# Altium integrated library Micron Memory Mobile LPDRAM.IntLib: 146 symbols (part 37 of 41)
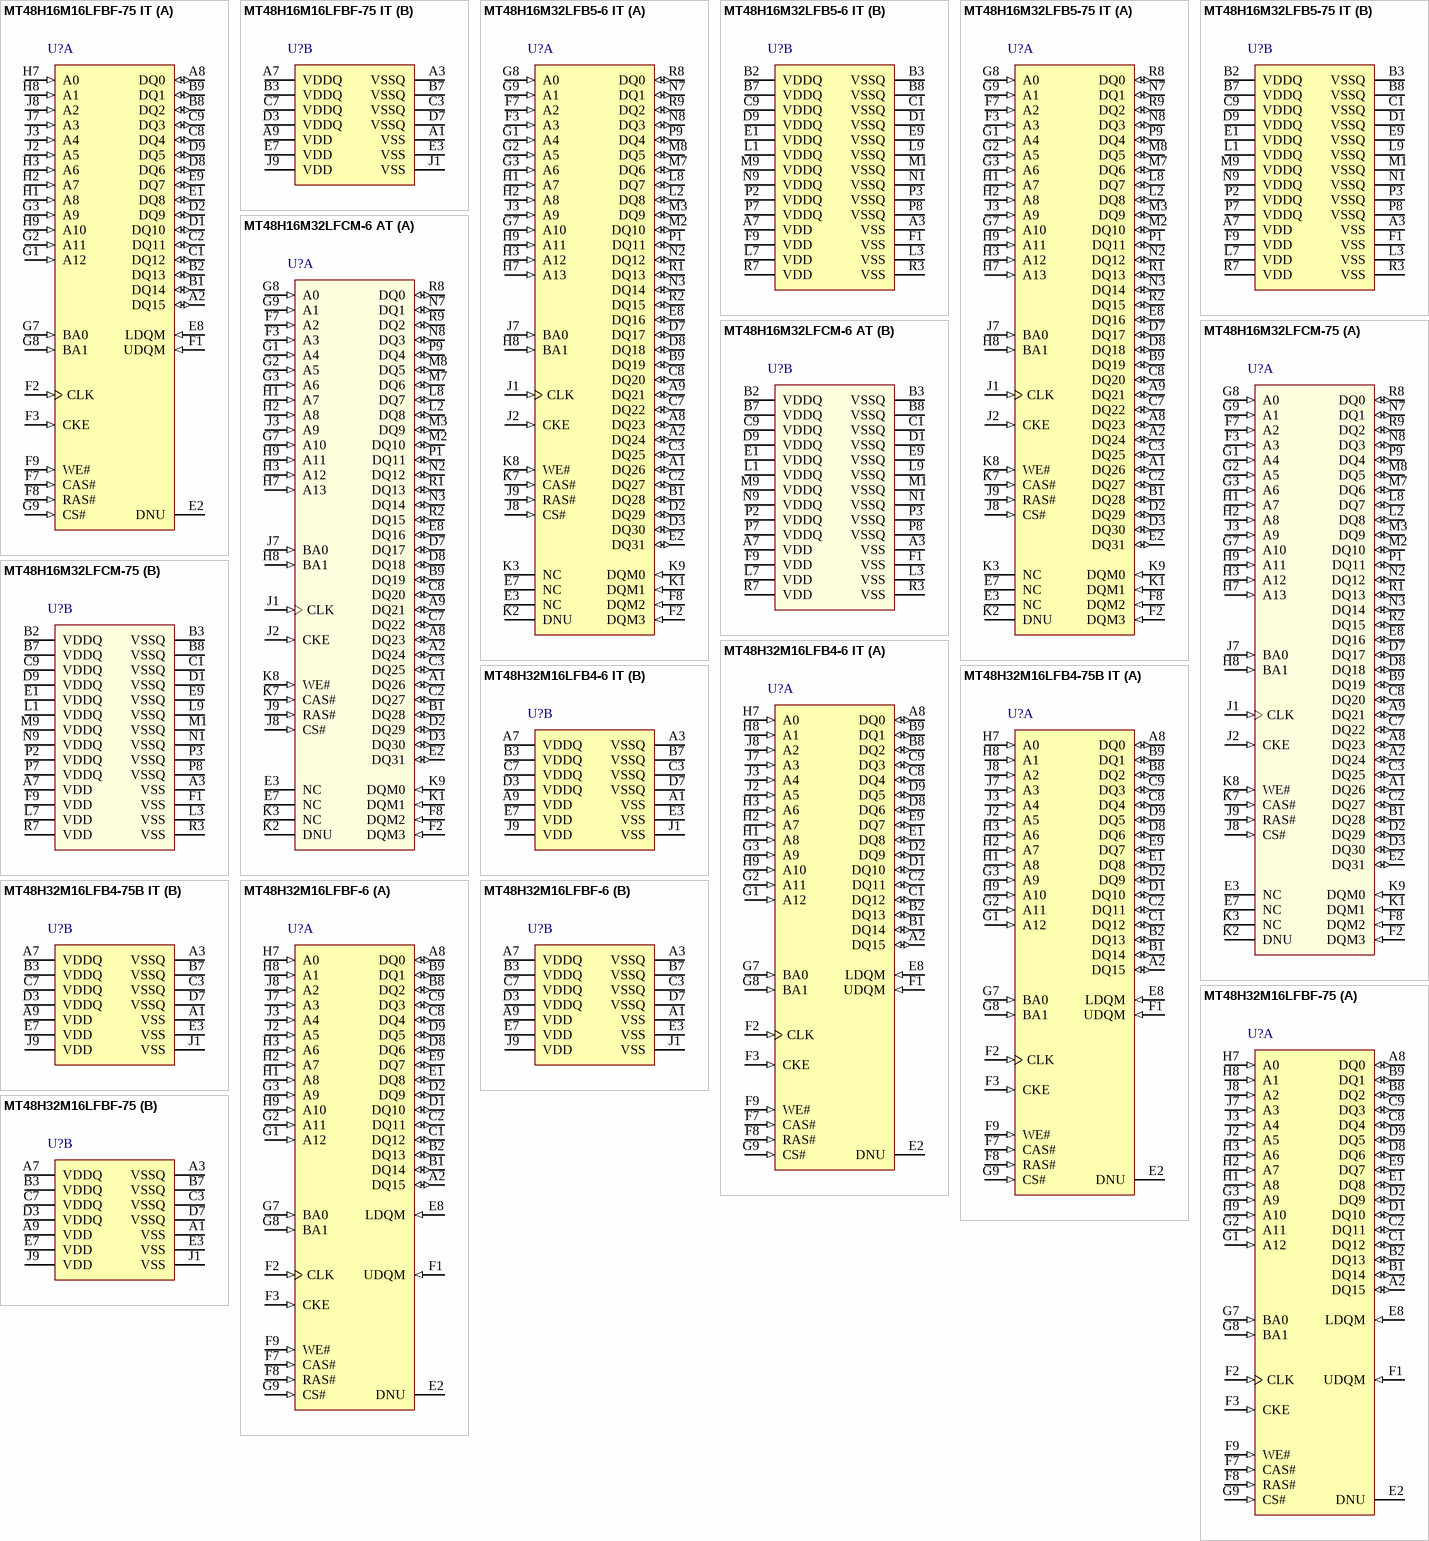
[diagram p60: symbols MT48H16M16LFBF-75 IT to MT48H32M16LFBF-75]

## MT48H16M32LFB5-6 IT
designator U?
512Mb Mobile LPSDR SDRAM, 16Mb x 32, 6ns, 1.8V, -40 to 85 degC, 90-Ball VFBGA, Pb-Free; Manufacturer: Micron; PartNumber: MT48H16M32LFB5-6 IT; Clock Rate: 167 MHz; Op. Temp.: -40C to +85C; DatasheetVersion: Rev.B; PackageVersion: Rev.P; PackageReference: MICT-B5-90; PackageDescription: 90-Ball Very Thin Profile Fine-Pitch Ball Grid Array, 13 x 8 mm, Pitch 0.8 mm; Cycle Time: 6ns; Data Rate: Mobile LPSDR; Density: 512Mb; Depth: 16Mb; Package: VFBGA; Part Status: Production; Pin Count: 90-ball; RoHS: Yes; Technology: Mobile LPSDR; Voltage: 1.8V; Width: x32; Mounting Technology: Surface Mount; ComponentLink1Description: Manufacturer URL; ComponentLink1URL: http://www.micron.com/; ComponentLink2Description: Datasheet; ComponentLink2URL: http://www.micron.com/~/media/Documents/Products/Data%20Sheet/DRAM/Mobile%20DRAM/Low-Power%20DRAM/LPSDR/Y67M_512Mb_Mobile_LPSDR_AT.pdf; ComponentLink3Description: Package Specification; ComponentLink3URL: http://www.micron.com/~/media/Documents/Products/Data%20Sheet/DRAM/Mobile%20DRAM/Low-Power%20DRAM/LPDDR/60-series/T67M_512Mb_mobile_lpddr_sdram_embedded.pdf
footprint MICT-B5-90 (BGA, 90-Balls, Body 13x8mm, Pitch 0.8mm)
part A pins: A1 DQ26 (io) "Data input/output: Data bus.", A2 DQ24 (io) "Data input/output: Data bus.", A8 DQ23 (io) "Data input/output: Data bus.", A9 DQ21 (io) "Data input/output: Data bus.", B1 DQ28 (io) "Data input/output: Data bus.", B9 DQ19 (io) "Data input/output: Data bus.", C2 DQ27 (io) "Data input/output: Data bus.", C3 DQ25 (io) "Data input/output: Data bus.", C7 DQ22 (io) "Data input/output: Data bus.", C8 DQ20 (io) "Data input/output: Data bus.", D2 DQ29 (io) "Data input/output: Data bus.", D3 DQ30 (io) "Data input/output: Data bus.", D7 DQ17 (io) "Data input/output: Data bus.", D8 DQ18 (io) "Data input/output: Data bus.", E2 DQ31 (io) "Data input/output: Data bus.", E3 NC "Internally not connected. These balls can be left unconnected but it is recommended that they be connected to VSS.", E7 NC "Internally not connected. These balls can be left unconnected but it is recommended that they be connected to VSS.", E8 DQ16 (io) "Data input/output: Data bus.", F2 DQM3 (in) "Input/Output mask: DQM is sampled HIGH and is an input mask signal for write accesses and an output enable signal for read accesses. Input data is masked during a WRITE cycle. The output buffers are High-Z (two-clock (See Datasheet)", F3 A3 (in) "Address input: Addresses are sampled during the ACTIVE command (row) and READ/WRITE command [column); column address A[9:0] (x16); with A10 defining auto precharge] to select one location out of the memory array in the (See Datasheet)", F7 A2 (in) "Address input: Addresses are sampled during the ACTIVE command (row) and READ/WRITE command [column); column address A[9:0] (x16); with A10 defining auto precharge] to select one location out of the memory array in the (See Datasheet)", F8 DQM2 (in) "Input/Output mask: DQM is sampled HIGH and is an input mask signal for write accesses and an output enable signal for read accesses. Input data is masked during a WRITE cycle. The output buffers are High-Z (two-clock (See Datasheet)", G1 A4 (in) "Address input: Addresses are sampled during the ACTIVE command (row) and READ/WRITE command [column); column address A[9:0] (x16); with A10 defining auto precharge] to select one location out of the memory array in the (See Datasheet)", G2 A5 (in) "Address input: Addresses are sampled during the ACTIVE command (row) and READ/WRITE command [column); column address A[9:0] (x16); with A10 defining auto precharge] to select one location out of the memory array in the (See Datasheet)", G3 A6 (in) "Address input: Addresses are sampled during the ACTIVE command (row) and READ/WRITE command [column); column address A[9:0] (x16); with A10 defining auto precharge] to select one location out of the memory array in the (See Datasheet)", G7 A10 (in) "Address input: Addresses are sampled during the ACTIVE command (row) and READ/WRITE command [column); column address A[9:0] (x16); with A10 defining auto precharge] to select one location out of the memory array in the (See Datasheet)", G8 A0 (in) "Address input: Addresses are sampled during the ACTIVE command (row) and READ/WRITE command [column); column address A[9:0] (x16); with A10 defining auto precharge] to select one location out of the memory array in the (See Datasheet)", G9 A1 (in) "Address input: Addresses are sampled during the ACTIVE command (row) and READ/WRITE command [column); column address A[9:0] (x16); with A10 defining auto precharge] to select one location out of the memory array in the (See Datasheet)", H1 A7 (in) "Address input: Addresses are sampled during the ACTIVE command (row) and READ/WRITE command [column); column address A[9:0] (x16); with A10 defining auto precharge] to select one location out of the memory array in the (See Datasheet)", H2 A8 (in) "Address input: Addresses are sampled during the ACTIVE command (row) and READ/WRITE command [column); column address A[9:0] (x16); with A10 defining auto precharge] to select one location out of the memory array in the (See Datasheet)", H3 A12 (in) "Address input: Addresses are sampled during the ACTIVE command (row) and READ/WRITE command [column); column address A[9:0] (x16); with A10 defining auto precharge] to select one location out of the memory array in the (See Datasheet)", H7 A13 (in) "Address input: Addresses are sampled during the ACTIVE command (row) and READ/WRITE command [column); column address A[9:0] (x16); with A10 defining auto precharge] to select one location out of the memory array in the (See Datasheet)", H8 BA1 (in) "Bank address input(s): BA0 and BA1 define to which bank the ACTIVE, READ, WRITE, or PRECHARGE command is being applied. BA0 and BA1 become “Don’t Care” when registering an ALL BANK PRECHARGE (A10 HIGH).", H9 A11 (in) "Address input: Addresses are sampled during the ACTIVE command (row) and READ/WRITE command [column); column address A[9:0] (x16); with A10 defining auto precharge] to select one location out of the memory array in the (See Datasheet)", J1 CLK (in) "Clock: CLK is driven by the system clock. All SDRAM input signals are sampled on the positive edge of CLK. CLK also increments the internal burst counter and controls the output registers.", J2 CKE (in) "Clock enable: CKE activates (HIGH) and deactivates (LOW) the CLK signal. Deactivating the clock provides precharge power-down and SELF REFRESH operation (all banks idle), active power-down (row active in any bank), deep (See Datasheet)", J3 A9 (in) "Address input: Addresses are sampled during the ACTIVE command (row) and READ/WRITE command [column); column address A[9:0] (x16); with A10 defining auto precharge] to select one location out of the memory array in the (See Datasheet)", J7 BA0 (in) "Bank address input(s): BA0 and BA1 define to which bank the ACTIVE, READ, WRITE, or PRECHARGE command is being applied. BA0 and BA1 become “Don’t Care” when registering an ALL BANK PRECHARGE (A10 HIGH).", J8 CS# (in) "Chip select: CS# enables (registered LOW) and disables (registered HIGH) the command decoder. All commands are masked when CS# is registered HIGH. CS# provides for external bank selection on systems with multiple banks. CS# (See Datasheet)", J9 RAS# (in) "Command input: RAS#, CAS#, and WE# (along with CS#) define the command being entered.", K1 DQM1 (in) "Input/Output mask: DQM is sampled HIGH and is an input mask signal for write accesses and an output enable signal for read accesses. Input data is masked during a WRITE cycle. The output buffers are High-Z (two-clock (See Datasheet)", K2 DNU "Do not use: Must be grounded or left floating.", K3 NC "Internally not connected. These balls can be left unconnected but it is recommended that they be connected to VSS.", K7 CAS# (in) "Command input: RAS#, CAS#, and WE# (along with CS#) define the command being entered.", K8 WE# (in) "Command input: RAS#, CAS#, and WE# (along with CS#) define the command being entered.", K9 DQM0 (in) "Input/Output mask: DQM is sampled HIGH and is an input mask signal for write accesses and an output enable signal for read accesses. Input data is masked during a WRITE cycle. The output buffers are High-Z (two-clock (See Datasheet)", L2 DQ8 (io) "Data input/output: Data bus.", L8 DQ7 (io) "Data input/output: Data bus.", M2 DQ10 (io) "Data input/output: Data bus.", M3 DQ9 (io) "Data input/output: Data bus.", M7 DQ6 (io) "Data input/output: Data bus.", M8 DQ5 (io) "Data input/output: Data bus.", N2 DQ12 (io) "Data input/output: Data bus.", N3 DQ14 (io) "Data input/output: Data bus.", N7 DQ1 (io) "Data input/output: Data bus.", N8 DQ3 (io) "Data input/output: Data bus.", P1 DQ11 (io) "Data input/output: Data bus.", P9 DQ4 (io) "Data input/output: Data bus.", R1 DQ13 (io) "Data input/output: Data bus.", R2 DQ15 (io) "Data input/output: Data bus.", R8 DQ0 (io) "Data input/output: Data bus.", R9 DQ2 (io) "Data input/output: Data bus."
part B pins: A3 VSS (power) "Ground.", A7 VDD (power) "Core power supply.", B2 VDDQ (power) "DQ power: Provide isolated power to DQ for improved noise immunity.", B3 VSSQ (power) "DQ ground: Provide isolated ground to DQ for improved noise immunity.", B7 VDDQ (power) "DQ power: Provide isolated power to DQ for improved noise immunity.", B8 VSSQ (power) "DQ ground: Provide isolated ground to DQ for improved noise immunity.", C1 VSSQ (power) "DQ ground: Provide isolated ground to DQ for improved noise immunity.", C9 VDDQ (power) "DQ power: Provide isolated power to DQ for improved noise immunity.", D1 VSSQ (power) "DQ ground: Provide isolated ground to DQ for improved noise immunity.", D9 VDDQ (power) "DQ power: Provide isolated power to DQ for improved noise immunity.", E1 VDDQ (power) "DQ power: Provide isolated power to DQ for improved noise immunity.", E9 VSSQ (power) "DQ ground: Provide isolated ground to DQ for improved noise immunity.", F1 VSS (power) "Ground.", F9 VDD (power) "Core power supply.", L1 VDDQ (power) "DQ power: Provide isolated power to DQ for improved noise immunity.", L3 VSS (power) "Ground.", L7 VDD (power) "Core power supply.", L9 VSSQ (power) "DQ ground: Provide isolated ground to DQ for improved noise immunity.", M1 VSSQ (power) "DQ ground: Provide isolated ground to DQ for improved noise immunity.", M9 VDDQ (power) "DQ power: Provide isolated power to DQ for improved noise immunity.", N1 VSSQ (power) "DQ ground: Provide isolated ground to DQ for improved noise immunity.", N9 VDDQ (power) "DQ power: Provide isolated power to DQ for improved noise immunity.", P2 VDDQ (power) "DQ power: Provide isolated power to DQ for improved noise immunity.", P3 VSSQ (power) "DQ ground: Provide isolated ground to DQ for improved noise immunity.", P7 VDDQ (power) "DQ power: Provide isolated power to DQ for improved noise immunity.", P8 VSSQ (power) "DQ ground: Provide isolated ground to DQ for improved noise immunity.", R3 VSS (power) "Ground.", R7 VDD (power) "Core power supply."

## MT48H16M32LFB5-75 IT
designator U?
512Mb Mobile LPSDR SDRAM, 16Mb x 32, 7.5ns, 1.8V, -40 to 85 degC, 90-Ball VFBGA, Pb-Free; Manufacturer: Micron; PartNumber: MT48H16M32LFB5-75 IT; Clock Rate: 133 MHz; Op. Temp.: -40C to +85C; DatasheetVersion: Rev.B; PackageVersion: Rev.P; PackageReference: MICT-B5-90; PackageDescription: 90-Ball Very Thin Profile Fine-Pitch Ball Grid Array, 13 x 8 mm, Pitch 0.8 mm; Cycle Time: 7.5ns; Density: 512Mb; Depth: 16Mb; Package: VFBGA; Part Status: Production; Pin Count: 90-ball; RoHS: Yes; Technology: Mobile LPSDR; Voltage: 1.8V; Width: x32; Mounting Technology: Surface Mount; ComponentLink1Description: Manufacturer URL; ComponentLink1URL: http://www.micron.com/; ComponentLink2Description: Datasheet; ComponentLink2URL: http://www.micron.com/~/media/Documents/Products/Data%20Sheet/DRAM/Mobile%20DRAM/Low-Power%20DRAM/LPSDR/Y67M_512Mb_Mobile_LPSDR_AT.pdf; ComponentLink3Description: Package Specification; ComponentLink3URL: http://www.micron.com/~/media/Documents/Products/Data%20Sheet/DRAM/Mobile%20DRAM/Low-Power%20DRAM/LPDDR/60-series/T67M_512Mb_mobile_lpddr_sdram_embedded.pdf
footprint MICT-B5-90 (BGA, 90-Balls, Body 13x8mm, Pitch 0.8mm)
part A pins: A1 DQ26 (io) "Data input/output: Data bus.", A2 DQ24 (io) "Data input/output: Data bus.", A8 DQ23 (io) "Data input/output: Data bus.", A9 DQ21 (io) "Data input/output: Data bus.", B1 DQ28 (io) "Data input/output: Data bus.", B9 DQ19 (io) "Data input/output: Data bus.", C2 DQ27 (io) "Data input/output: Data bus.", C3 DQ25 (io) "Data input/output: Data bus.", C7 DQ22 (io) "Data input/output: Data bus.", C8 DQ20 (io) "Data input/output: Data bus.", D2 DQ29 (io) "Data input/output: Data bus.", D3 DQ30 (io) "Data input/output: Data bus.", D7 DQ17 (io) "Data input/output: Data bus.", D8 DQ18 (io) "Data input/output: Data bus.", E2 DQ31 (io) "Data input/output: Data bus.", E3 NC "Internally not connected. These balls can be left unconnected but it is recommended that they be connected to VSS.", E7 NC "Internally not connected. These balls can be left unconnected but it is recommended that they be connected to VSS.", E8 DQ16 (io) "Data input/output: Data bus.", F2 DQM3 (in) "Input/Output mask: DQM is sampled HIGH and is an input mask signal for write accesses and an output enable signal for read accesses. Input data is masked during a WRITE cycle. The output buffers are High-Z (two-clock (See Datasheet)", F3 A3 (in) "Address input: Addresses are sampled during the ACTIVE command (row) and READ/WRITE command [column); column address A[9:0] (x16); with A10 defining auto precharge] to select one location out of the memory array in the (See Datasheet)", F7 A2 (in) "Address input: Addresses are sampled during the ACTIVE command (row) and READ/WRITE command [column); column address A[9:0] (x16); with A10 defining auto precharge] to select one location out of the memory array in the (See Datasheet)", F8 DQM2 (in) "Input/Output mask: DQM is sampled HIGH and is an input mask signal for write accesses and an output enable signal for read accesses. Input data is masked during a WRITE cycle. The output buffers are High-Z (two-clock (See Datasheet)", G1 A4 (in) "Address input: Addresses are sampled during the ACTIVE command (row) and READ/WRITE command [column); column address A[9:0] (x16); with A10 defining auto precharge] to select one location out of the memory array in the (See Datasheet)", G2 A5 (in) "Address input: Addresses are sampled during the ACTIVE command (row) and READ/WRITE command [column); column address A[9:0] (x16); with A10 defining auto precharge] to select one location out of the memory array in the (See Datasheet)", G3 A6 (in) "Address input: Addresses are sampled during the ACTIVE command (row) and READ/WRITE command [column); column address A[9:0] (x16); with A10 defining auto precharge] to select one location out of the memory array in the (See Datasheet)", G7 A10 (in) "Address input: Addresses are sampled during the ACTIVE command (row) and READ/WRITE command [column); column address A[9:0] (x16); with A10 defining auto precharge] to select one location out of the memory array in the (See Datasheet)", G8 A0 (in) "Address input: Addresses are sampled during the ACTIVE command (row) and READ/WRITE command [column); column address A[9:0] (x16); with A10 defining auto precharge] to select one location out of the memory array in the (See Datasheet)", G9 A1 (in) "Address input: Addresses are sampled during the ACTIVE command (row) and READ/WRITE command [column); column address A[9:0] (x16); with A10 defining auto precharge] to select one location out of the memory array in the (See Datasheet)", H1 A7 (in) "Address input: Addresses are sampled during the ACTIVE command (row) and READ/WRITE command [column); column address A[9:0] (x16); with A10 defining auto precharge] to select one location out of the memory array in the (See Datasheet)", H2 A8 (in) "Address input: Addresses are sampled during the ACTIVE command (row) and READ/WRITE command [column); column address A[9:0] (x16); with A10 defining auto precharge] to select one location out of the memory array in the (See Datasheet)", H3 A12 (in) "Address input: Addresses are sampled during the ACTIVE command (row) and READ/WRITE command [column); column address A[9:0] (x16); with A10 defining auto precharge] to select one location out of the memory array in the (See Datasheet)", H7 A13 (in) "Address input: Addresses are sampled during the ACTIVE command (row) and READ/WRITE command [column); column address A[9:0] (x16); with A10 defining auto precharge] to select one location out of the memory array in the (See Datasheet)", H8 BA1 (in) "Bank address input(s): BA0 and BA1 define to which bank the ACTIVE, READ, WRITE, or PRECHARGE command is being applied. BA0 and BA1 become “Don’t Care” when registering an ALL BANK PRECHARGE (A10 HIGH).", H9 A11 (in) "Address input: Addresses are sampled during the ACTIVE command (row) and READ/WRITE command [column); column address A[9:0] (x16); with A10 defining auto precharge] to select one location out of the memory array in the (See Datasheet)", J1 CLK (in) "Clock: CLK is driven by the system clock. All SDRAM input signals are sampled on the positive edge of CLK. CLK also increments the internal burst counter and controls the output registers.", J2 CKE (in) "Clock enable: CKE activates (HIGH) and deactivates (LOW) the CLK signal. Deactivating the clock provides precharge power-down and SELF REFRESH operation (all banks idle), active power-down (row active in any bank), deep (See Datasheet)", J3 A9 (in) "Address input: Addresses are sampled during the ACTIVE command (row) and READ/WRITE command [column); column address A[9:0] (x16); with A10 defining auto precharge] to select one location out of the memory array in the (See Datasheet)", J7 BA0 (in) "Bank address input(s): BA0 and BA1 define to which bank the ACTIVE, READ, WRITE, or PRECHARGE command is being applied. BA0 and BA1 become “Don’t Care” when registering an ALL BANK PRECHARGE (A10 HIGH).", J8 CS# (in) "Chip select: CS# enables (registered LOW) and disables (registered HIGH) the command decoder. All commands are masked when CS# is registered HIGH. CS# provides for external bank selection on systems with multiple banks. CS# (See Datasheet)", J9 RAS# (in) "Command input: RAS#, CAS#, and WE# (along with CS#) define the command being entered.", K1 DQM1 (in) "Input/Output mask: DQM is sampled HIGH and is an input mask signal for write accesses and an output enable signal for read accesses. Input data is masked during a WRITE cycle. The output buffers are High-Z (two-clock (See Datasheet)", K2 DNU "Do not use: Must be grounded or left floating.", K3 NC "Internally not connected. These balls can be left unconnected but it is recommended that they be connected to VSS.", K7 CAS# (in) "Command input: RAS#, CAS#, and WE# (along with CS#) define the command being entered.", K8 WE# (in) "Command input: RAS#, CAS#, and WE# (along with CS#) define the command being entered.", K9 DQM0 (in) "Input/Output mask: DQM is sampled HIGH and is an input mask signal for write accesses and an output enable signal for read accesses. Input data is masked during a WRITE cycle. The output buffers are High-Z (two-clock (See Datasheet)", L2 DQ8 (io) "Data input/output: Data bus.", L8 DQ7 (io) "Data input/output: Data bus.", M2 DQ10 (io) "Data input/output: Data bus.", M3 DQ9 (io) "Data input/output: Data bus.", M7 DQ6 (io) "Data input/output: Data bus.", M8 DQ5 (io) "Data input/output: Data bus.", N2 DQ12 (io) "Data input/output: Data bus.", N3 DQ14 (io) "Data input/output: Data bus.", N7 DQ1 (io) "Data input/output: Data bus.", N8 DQ3 (io) "Data input/output: Data bus.", P1 DQ11 (io) "Data input/output: Data bus.", P9 DQ4 (io) "Data input/output: Data bus.", R1 DQ13 (io) "Data input/output: Data bus.", R2 DQ15 (io) "Data input/output: Data bus.", R8 DQ0 (io) "Data input/output: Data bus.", R9 DQ2 (io) "Data input/output: Data bus."
part B pins: A3 VSS (power) "Ground.", A7 VDD (power) "Core power supply.", B2 VDDQ (power) "DQ power: Provide isolated power to DQ for improved noise immunity.", B3 VSSQ (power) "DQ ground: Provide isolated ground to DQ for improved noise immunity.", B7 VDDQ (power) "DQ power: Provide isolated power to DQ for improved noise immunity.", B8 VSSQ (power) "DQ ground: Provide isolated ground to DQ for improved noise immunity.", C1 VSSQ (power) "DQ ground: Provide isolated ground to DQ for improved noise immunity.", C9 VDDQ (power) "DQ power: Provide isolated power to DQ for improved noise immunity.", D1 VSSQ (power) "DQ ground: Provide isolated ground to DQ for improved noise immunity.", D9 VDDQ (power) "DQ power: Provide isolated power to DQ for improved noise immunity.", E1 VDDQ (power) "DQ power: Provide isolated power to DQ for improved noise immunity.", E9 VSSQ (power) "DQ ground: Provide isolated ground to DQ for improved noise immunity.", F1 VSS (power) "Ground.", F9 VDD (power) "Core power supply.", L1 VDDQ (power) "DQ power: Provide isolated power to DQ for improved noise immunity.", L3 VSS (power) "Ground.", L7 VDD (power) "Core power supply.", L9 VSSQ (power) "DQ ground: Provide isolated ground to DQ for improved noise immunity.", M1 VSSQ (power) "DQ ground: Provide isolated ground to DQ for improved noise immunity.", M9 VDDQ (power) "DQ power: Provide isolated power to DQ for improved noise immunity.", N1 VSSQ (power) "DQ ground: Provide isolated ground to DQ for improved noise immunity.", N9 VDDQ (power) "DQ power: Provide isolated power to DQ for improved noise immunity.", P2 VDDQ (power) "DQ power: Provide isolated power to DQ for improved noise immunity.", P3 VSSQ (power) "DQ ground: Provide isolated ground to DQ for improved noise immunity.", P7 VDDQ (power) "DQ power: Provide isolated power to DQ for improved noise immunity.", P8 VSSQ (power) "DQ ground: Provide isolated ground to DQ for improved noise immunity.", R3 VSS (power) "Ground.", R7 VDD (power) "Core power supply."

## MT48H16M32LFCM-6 AT
designator U?
512Mb Mobile LPSDR SDRAM, 16Mb x 32, 6ns, 1.8V, -40 to 105 degC, 90-Ball VFBGA, Pb-Free; Manufacturer: Micron; PartNumber: MT48H16M32LFCM-6 AT; Clock Rate: 167 MHz; Op. Temp.: -40C to +105C; DatasheetVersion: Rev.H; PackageVersion: Rev.B; PackageReference: MICT-CM-90; PackageDescription: 90-Ball Very Thin Profile Fine-Pitch Ball Grid Array, 13 x 10 mm, Pitch 0.8 mm; Cycle Time: 6ns; Data Rate: Mobile LPSDR; Density: 512Mb; Depth: 16Mb; Package: VFBGA; Part Status: End of Life; Pin Count: 90-ball; RoHS: Yes; Technology: Mobile LPSDR; Voltage: 1.8V; Width: x32; Mounting Technology: Surface Mount; ComponentLink1Description: Manufacturer URL; ComponentLink1URL: http://www.micron.com/; ComponentLink2Description: Datasheet; ComponentLink2URL: http://www.micron.com/~/media/Documents/Products/Data%20Sheet/DRAM/Mobile%20DRAM/Low-Power%20DRAM/LPSDR/Y47M_512Mb_mobile_lpsdr_sdram.pdf; ComponentLink3Description: Package Specification; ComponentLink3URL: http://www.micron.com/~/media/Documents/Products/Data%20Sheet/DRAM/Mobile%20DRAM/Low-Power%20DRAM/LPSDR/Y47M_512Mb_mobile_lpsdr_sdram.pdf
footprint MICT-CM-90 (BGA, 90-Balls, Body 13x10mm, Pitch 0.8mm)
part A pins: A1 DQ26 (io) "Data input/output: Data bus.", A2 DQ24 (io) "Data input/output: Data bus.", A8 DQ23 (io) "Data input/output: Data bus.", A9 DQ21 (io) "Data input/output: Data bus.", B1 DQ28 (io) "Data input/output: Data bus.", B9 DQ19 (io) "Data input/output: Data bus.", C2 DQ27 (io) "Data input/output: Data bus.", C3 DQ25 (io) "Data input/output: Data bus.", C7 DQ22 (io) "Data input/output: Data bus.", C8 DQ20 (io) "Data input/output: Data bus.", D2 DQ29 (io) "Data input/output: Data bus.", D3 DQ30 (io) "Data input/output: Data bus.", D7 DQ17 (io) "Data input/output: Data bus.", D8 DQ18 (io) "Data input/output: Data bus.", E2 DQ31 (io) "Data input/output: Data bus.", E3 NC "Internally not connected. These balls can be left unconnected but it is recommended that they be connected to VSS.", E7 NC "Internally not connected. These balls can be left unconnected but it is recommended that they be connected to VSS.", E8 DQ16 (io) "Data input/output: Data bus.", F2 DQM3 (in) "Input/Output mask: DQM is sampled HIGH and is an input mask signal for write accesses and an output enable signal for read accesses. Input data is masked during a WRITE cycle. The output buffers are High-Z (two-clock (See Datasheet)", F3 A3 (in) "Address inputs: Addresses are sampled during the ACTIVE command (row) and READ/WRITE command [column); column address A[9:0] (x16); with A10 defining auto precharge] to select one location out of the memory array in the (See Datasheet)", F7 A2 (in) "Address inputs: Addresses are sampled during the ACTIVE command (row) and READ/WRITE command [column); column address A[9:0] (x16); with A10 defining auto precharge] to select one location out of the memory array in the (See Datasheet)", F8 DQM2 (in) "Input/Output mask: DQM is sampled HIGH and is an input mask signal for write accesses and an output enable signal for read accesses. Input data is masked during a WRITE cycle. The output buffers are High-Z (two-clock (See Datasheet)", G1 A4 (in) "Address inputs: Addresses are sampled during the ACTIVE command (row) and READ/WRITE command [column); column address A[9:0] (x16); with A10 defining auto precharge] to select one location out of the memory array in the (See Datasheet)", G2 A5 (in) "Address inputs: Addresses are sampled during the ACTIVE command (row) and READ/WRITE command [column); column address A[9:0] (x16); with A10 defining auto precharge] to select one location out of the memory array in the (See Datasheet)", G3 A6 (in) "Address inputs: Addresses are sampled during the ACTIVE command (row) and READ/WRITE command [column); column address A[9:0] (x16); with A10 defining auto precharge] to select one location out of the memory array in the (See Datasheet)", G7 A10 (in) "Address inputs: Addresses are sampled during the ACTIVE command (row) and READ/WRITE command [column); column address A[9:0] (x16); with A10 defining auto precharge] to select one location out of the memory array in the (See Datasheet)", G8 A0 (in) "Address inputs: Addresses are sampled during the ACTIVE command (row) and READ/WRITE command [column); column address A[9:0] (x16); with A10 defining auto precharge] to select one location out of the memory array in the (See Datasheet)", G9 A1 (in) "Address inputs: Addresses are sampled during the ACTIVE command (row) and READ/WRITE command [column); column address A[9:0] (x16); with A10 defining auto precharge] to select one location out of the memory array in the (See Datasheet)", H1 A7 (in) "Address inputs: Addresses are sampled during the ACTIVE command (row) and READ/WRITE command [column); column address A[9:0] (x16); with A10 defining auto precharge] to select one location out of the memory array in the (See Datasheet)", H2 A8 (in) "Address inputs: Addresses are sampled during the ACTIVE command (row) and READ/WRITE command [column); column address A[9:0] (x16); with A10 defining auto precharge] to select one location out of the memory array in the (See Datasheet)", H3 A12 (in) "Address inputs: Addresses are sampled during the ACTIVE command (row) and READ/WRITE command [column); column address A[9:0] (x16); with A10 defining auto precharge] to select one location out of the memory array in the (See Datasheet)", H7 A13 (in) "Address inputs: Addresses are sampled during the ACTIVE command (row) and READ/WRITE command [column); column address A[9:0] (x16); with A10 defining auto precharge] to select one location out of the memory array in the (See Datasheet)", H8 BA1 (in) "Bank address input(s): BA0 and BA1 define to which bank the ACTIVE, READ, WRITE, or PRECHARGE command is being applied. BA0 and BA1 become “Don’t Care” when registering an ALL BANK PRECHARGE (A10 HIGH).", H9 A11 (in) "Address inputs: Addresses are sampled during the ACTIVE command (row) and READ/WRITE command [column); column address A[9:0] (x16); with A10 defining auto precharge] to select one location out of the memory array in the (See Datasheet)", J1 CLK (in) "Clock: CLK is driven by the system clock. All SDRAM input signals are sampled on the positive edge of CLK. CLK also increments the internal burst counter and controls the output registers.", J2 CKE (in) "Clock enable: CKE activates (HIGH) and deactivates (LOW) the CLK signal. Deactivating the clock provides precharge power-down and SELF REFRESH operation (all banks idle), active power-down (row active in any bank), deep (See Datasheet)", J3 A9 (in) "Address inputs: Addresses are sampled during the ACTIVE command (row) and READ/WRITE command [column); column address A[9:0] (x16); with A10 defining auto precharge] to select one location out of the memory array in the (See Datasheet)", J7 BA0 (in) "Bank address input(s): BA0 and BA1 define to which bank the ACTIVE, READ, WRITE, or PRECHARGE command is being applied. BA0 and BA1 become “Don’t Care” when registering an ALL BANK PRECHARGE (A10 HIGH).", J8 CS# (in) "Chip select: CS# enables (registered LOW) and disables (registered HIGH) the command decoder. All commands are masked when CS# is registered HIGH. CS# provides for external bank selection on systems with multiple banks. CS# (See Datasheet)", J9 RAS# (in) "Command inputs: RAS#, CAS#, and WE# (along with CS#) define the command being entered.", K1 DQM1 (in) "Input/Output mask: DQM is sampled HIGH and is an input mask signal for write accesses and an output enable signal for read accesses. Input data is masked during a WRITE cycle. The output buffers are High-Z (two-clock (See Datasheet)", K2 DNU "Do not use: Must be grounded or left floating.", K3 NC "Internally not connected. These balls can be left unconnected but it is recommended that they be connected to VSS.", K7 CAS# (in) "Command inputs: RAS#, CAS#, and WE# (along with CS#) define the command being entered.", K8 WE# (in) "Command inputs: RAS#, CAS#, and WE# (along with CS#) define the command being entered.", K9 DQM0 (in) "Input/Output mask: DQM is sampled HIGH and is an input mask signal for write accesses and an output enable signal for read accesses. Input data is masked during a WRITE cycle. The output buffers are High-Z (two-clock (See Datasheet)", L2 DQ8 (io) "Data input/output: Data bus.", L8 DQ7 (io) "Data input/output: Data bus.", M2 DQ10 (io) "Data input/output: Data bus.", M3 DQ9 (io) "Data input/output: Data bus.", M7 DQ6 (io) "Data input/output: Data bus.", M8 DQ5 (io) "Data input/output: Data bus.", N2 DQ12 (io) "Data input/output: Data bus.", N3 DQ14 (io) "Data input/output: Data bus.", N7 DQ1 (io) "Data input/output: Data bus.", N8 DQ3 (io) "Data input/output: Data bus.", P1 DQ11 (io) "Data input/output: Data bus.", P9 DQ4 (io) "Data input/output: Data bus.", R1 DQ13 (io) "Data input/output: Data bus.", R2 DQ15 (io) "Data input/output: Data bus.", R8 DQ0 (io) "Data input/output: Data bus.", R9 DQ2 (io) "Data input/output: Data bus."
part B pins: A3 VSS (power) "Ground.", A7 VDD (power) "Core power supply.", B2 VDDQ (power) "DQ power: Provide isolated power to DQ for improved noise immunity.", B3 VSSQ (power) "DQ ground: Provide isolated ground to DQ for improved noise immunity.", B7 VDDQ (power) "DQ power: Provide isolated power to DQ for improved noise immunity.", B8 VSSQ (power) "DQ ground: Provide isolated ground to DQ for improved noise immunity.", C1 VSSQ (power) "DQ ground: Provide isolated ground to DQ for improved noise immunity.", C9 VDDQ (power) "DQ power: Provide isolated power to DQ for improved noise immunity.", D1 VSSQ (power) "DQ ground: Provide isolated ground to DQ for improved noise immunity.", D9 VDDQ (power) "DQ power: Provide isolated power to DQ for improved noise immunity.", E1 VDDQ (power) "DQ power: Provide isolated power to DQ for improved noise immunity.", E9 VSSQ (power) "DQ ground: Provide isolated ground to DQ for improved noise immunity.", F1 VSS (power) "Ground.", F9 VDD (power) "Core power supply.", L1 VDDQ (power) "DQ power: Provide isolated power to DQ for improved noise immunity.", L3 VSS (power) "Ground.", L7 VDD (power) "Core power supply.", L9 VSSQ (power) "DQ ground: Provide isolated ground to DQ for improved noise immunity.", M1 VSSQ (power) "DQ ground: Provide isolated ground to DQ for improved noise immunity.", M9 VDDQ (power) "DQ power: Provide isolated power to DQ for improved noise immunity.", N1 VSSQ (power) "DQ ground: Provide isolated ground to DQ for improved noise immunity.", N9 VDDQ (power) "DQ power: Provide isolated power to DQ for improved noise immunity.", P2 VDDQ (power) "DQ power: Provide isolated power to DQ for improved noise immunity.", P3 VSSQ (power) "DQ ground: Provide isolated ground to DQ for improved noise immunity.", P7 VDDQ (power) "DQ power: Provide isolated power to DQ for improved noise immunity.", P8 VSSQ (power) "DQ ground: Provide isolated ground to DQ for improved noise immunity.", R3 VSS (power) "Ground.", R7 VDD (power) "Core power supply."

## MT48H16M32LFCM-75
designator U?
512Mb Mobile LPSDR SDRAM, 16Mb x 32, 7.5ns, 1.8V, 0 to 70 degC, 90-Ball VFBGA, Pb-Free; Manufacturer: Micron; PartNumber: MT48H16M32LFCM-75; Clock Rate: 133 MHz; Op. Temp.: 0C to +70C; DatasheetVersion: Rev.H; PackageVersion: Rev.B; PackageReference: MICT-CM-90; PackageDescription: 90-Ball Very Thin Profile Fine-Pitch Ball Grid Array, 13 x 10 mm, Pitch 0.8 mm; Cycle Time: 7.5ns; Density: 512Mb; Depth: 16Mb; Package: VFBGA; Part Status: Contact Factory; Pin Count: 90-ball; RoHS: Yes; Technology: Mobile LPSDR; Voltage: 1.8V; Width: x32; Mounting Technology: Surface Mount; ComponentLink1Description: Manufacturer URL; ComponentLink1URL: http://www.micron.com/; ComponentLink2Description: Datasheet; ComponentLink2URL: http://www.micron.com/~/media/Documents/Products/Data%20Sheet/DRAM/Mobile%20DRAM/Low-Power%20DRAM/LPSDR/Y47M_512Mb_mobile_lpsdr_sdram.pdf; ComponentLink3Description: Package Specification; ComponentLink3URL: http://www.micron.com/~/media/Documents/Products/Data%20Sheet/DRAM/Mobile%20DRAM/Low-Power%20DRAM/LPSDR/Y47M_512Mb_mobile_lpsdr_sdram.pdf
footprint MICT-CM-90 (BGA, 90-Balls, Body 13x10mm, Pitch 0.8mm)
part A pins: A1 DQ26 (io) "Data input/output: Data bus.", A2 DQ24 (io) "Data input/output: Data bus.", A8 DQ23 (io) "Data input/output: Data bus.", A9 DQ21 (io) "Data input/output: Data bus.", B1 DQ28 (io) "Data input/output: Data bus.", B9 DQ19 (io) "Data input/output: Data bus.", C2 DQ27 (io) "Data input/output: Data bus.", C3 DQ25 (io) "Data input/output: Data bus.", C7 DQ22 (io) "Data input/output: Data bus.", C8 DQ20 (io) "Data input/output: Data bus.", D2 DQ29 (io) "Data input/output: Data bus.", D3 DQ30 (io) "Data input/output: Data bus.", D7 DQ17 (io) "Data input/output: Data bus.", D8 DQ18 (io) "Data input/output: Data bus.", E2 DQ31 (io) "Data input/output: Data bus.", E3 NC "Internally not connected. These balls can be left unconnected but it is recommended that they be connected to VSS.", E7 NC "Internally not connected. These balls can be left unconnected but it is recommended that they be connected to VSS.", E8 DQ16 (io) "Data input/output: Data bus.", F2 DQM3 (in) "Input/Output mask: DQM is sampled HIGH and is an input mask signal for write accesses and an output enable signal for read accesses. Input data is masked during a WRITE cycle. The output buffers are High-Z (two-clock (See Datasheet)", F3 A3 (in) "Address inputs: Addresses are sampled during the ACTIVE command (row) and READ/WRITE command [column); column address A[9:0] (x16); with A10 defining auto precharge] to select one location out of the memory array in the (See Datasheet)", F7 A2 (in) "Address inputs: Addresses are sampled during the ACTIVE command (row) and READ/WRITE command [column); column address A[9:0] (x16); with A10 defining auto precharge] to select one location out of the memory array in the (See Datasheet)", F8 DQM2 (in) "Input/Output mask: DQM is sampled HIGH and is an input mask signal for write accesses and an output enable signal for read accesses. Input data is masked during a WRITE cycle. The output buffers are High-Z (two-clock (See Datasheet)", G1 A4 (in) "Address inputs: Addresses are sampled during the ACTIVE command (row) and READ/WRITE command [column); column address A[9:0] (x16); with A10 defining auto precharge] to select one location out of the memory array in the (See Datasheet)", G2 A5 (in) "Address inputs: Addresses are sampled during the ACTIVE command (row) and READ/WRITE command [column); column address A[9:0] (x16); with A10 defining auto precharge] to select one location out of the memory array in the (See Datasheet)", G3 A6 (in) "Address inputs: Addresses are sampled during the ACTIVE command (row) and READ/WRITE command [column); column address A[9:0] (x16); with A10 defining auto precharge] to select one location out of the memory array in the (See Datasheet)", G7 A10 (in) "Address inputs: Addresses are sampled during the ACTIVE command (row) and READ/WRITE command [column); column address A[9:0] (x16); with A10 defining auto precharge] to select one location out of the memory array in the (See Datasheet)", G8 A0 (in) "Address inputs: Addresses are sampled during the ACTIVE command (row) and READ/WRITE command [column); column address A[9:0] (x16); with A10 defining auto precharge] to select one location out of the memory array in the (See Datasheet)", G9 A1 (in) "Address inputs: Addresses are sampled during the ACTIVE command (row) and READ/WRITE command [column); column address A[9:0] (x16); with A10 defining auto precharge] to select one location out of the memory array in the (See Datasheet)", H1 A7 (in) "Address inputs: Addresses are sampled during the ACTIVE command (row) and READ/WRITE command [column); column address A[9:0] (x16); with A10 defining auto precharge] to select one location out of the memory array in the (See Datasheet)", H2 A8 (in) "Address inputs: Addresses are sampled during the ACTIVE command (row) and READ/WRITE command [column); column address A[9:0] (x16); with A10 defining auto precharge] to select one location out of the memory array in the (See Datasheet)", H3 A12 (in) "Address inputs: Addresses are sampled during the ACTIVE command (row) and READ/WRITE command [column); column address A[9:0] (x16); with A10 defining auto precharge] to select one location out of the memory array in the (See Datasheet)", H7 A13 (in) "Address inputs: Addresses are sampled during the ACTIVE command (row) and READ/WRITE command [column); column address A[9:0] (x16); with A10 defining auto precharge] to select one location out of the memory array in the (See Datasheet)", H8 BA1 (in) "Bank address input(s): BA0 and BA1 define to which bank the ACTIVE, READ, WRITE, or PRECHARGE command is being applied. BA0 and BA1 become “Don’t Care” when registering an ALL BANK PRECHARGE (A10 HIGH).", H9 A11 (in) "Address inputs: Addresses are sampled during the ACTIVE command (row) and READ/WRITE command [column); column address A[9:0] (x16); with A10 defining auto precharge] to select one location out of the memory array in the (See Datasheet)", J1 CLK (in) "Clock: CLK is driven by the system clock. All SDRAM input signals are sampled on the positive edge of CLK. CLK also increments the internal burst counter and controls the output registers.", J2 CKE (in) "Clock enable: CKE activates (HIGH) and deactivates (LOW) the CLK signal. Deactivating the clock provides precharge power-down and SELF REFRESH operation (all banks idle), active power-down (row active in any bank), deep (See Datasheet)", J3 A9 (in) "Address inputs: Addresses are sampled during the ACTIVE command (row) and READ/WRITE command [column); column address A[9:0] (x16); with A10 defining auto precharge] to select one location out of the memory array in the (See Datasheet)", J7 BA0 (in) "Bank address input(s): BA0 and BA1 define to which bank the ACTIVE, READ, WRITE, or PRECHARGE command is being applied. BA0 and BA1 become “Don’t Care” when registering an ALL BANK PRECHARGE (A10 HIGH).", J8 CS# (in) "Chip select: CS# enables (registered LOW) and disables (registered HIGH) the command decoder. All commands are masked when CS# is registered HIGH. CS# provides for external bank selection on systems with multiple banks. CS# (See Datasheet)", J9 RAS# (in) "Command inputs: RAS#, CAS#, and WE# (along with CS#) define the command being entered.", K1 DQM1 (in) "Input/Output mask: DQM is sampled HIGH and is an input mask signal for write accesses and an output enable signal for read accesses. Input data is masked during a WRITE cycle. The output buffers are High-Z (two-clock (See Datasheet)", K2 DNU "Do not use: Must be grounded or left floating.", K3 NC "Internally not connected. These balls can be left unconnected but it is recommended that they be connected to VSS.", K7 CAS# (in) "Command inputs: RAS#, CAS#, and WE# (along with CS#) define the command being entered.", K8 WE# (in) "Command inputs: RAS#, CAS#, and WE# (along with CS#) define the command being entered.", K9 DQM0 (in) "Input/Output mask: DQM is sampled HIGH and is an input mask signal for write accesses and an output enable signal for read accesses. Input data is masked during a WRITE cycle. The output buffers are High-Z (two-clock (See Datasheet)", L2 DQ8 (io) "Data input/output: Data bus.", L8 DQ7 (io) "Data input/output: Data bus.", M2 DQ10 (io) "Data input/output: Data bus.", M3 DQ9 (io) "Data input/output: Data bus.", M7 DQ6 (io) "Data input/output: Data bus.", M8 DQ5 (io) "Data input/output: Data bus.", N2 DQ12 (io) "Data input/output: Data bus.", N3 DQ14 (io) "Data input/output: Data bus.", N7 DQ1 (io) "Data input/output: Data bus.", N8 DQ3 (io) "Data input/output: Data bus.", P1 DQ11 (io) "Data input/output: Data bus.", P9 DQ4 (io) "Data input/output: Data bus.", R1 DQ13 (io) "Data input/output: Data bus.", R2 DQ15 (io) "Data input/output: Data bus.", R8 DQ0 (io) "Data input/output: Data bus.", R9 DQ2 (io) "Data input/output: Data bus."
part B pins: A3 VSS (power) "Ground.", A7 VDD (power) "Core power supply.", B2 VDDQ (power) "DQ power: Provide isolated power to DQ for improved noise immunity.", B3 VSSQ (power) "DQ ground: Provide isolated ground to DQ for improved noise immunity.", B7 VDDQ (power) "DQ power: Provide isolated power to DQ for improved noise immunity.", B8 VSSQ (power) "DQ ground: Provide isolated ground to DQ for improved noise immunity.", C1 VSSQ (power) "DQ ground: Provide isolated ground to DQ for improved noise immunity.", C9 VDDQ (power) "DQ power: Provide isolated power to DQ for improved noise immunity.", D1 VSSQ (power) "DQ ground: Provide isolated ground to DQ for improved noise immunity.", D9 VDDQ (power) "DQ power: Provide isolated power to DQ for improved noise immunity.", E1 VDDQ (power) "DQ power: Provide isolated power to DQ for improved noise immunity.", E9 VSSQ (power) "DQ ground: Provide isolated ground to DQ for improved noise immunity.", F1 VSS (power) "Ground.", F9 VDD (power) "Core power supply.", L1 VDDQ (power) "DQ power: Provide isolated power to DQ for improved noise immunity.", L3 VSS (power) "Ground.", L7 VDD (power) "Core power supply.", L9 VSSQ (power) "DQ ground: Provide isolated ground to DQ for improved noise immunity.", M1 VSSQ (power) "DQ ground: Provide isolated ground to DQ for improved noise immunity.", M9 VDDQ (power) "DQ power: Provide isolated power to DQ for improved noise immunity.", N1 VSSQ (power) "DQ ground: Provide isolated ground to DQ for improved noise immunity.", N9 VDDQ (power) "DQ power: Provide isolated power to DQ for improved noise immunity.", P2 VDDQ (power) "DQ power: Provide isolated power to DQ for improved noise immunity.", P3 VSSQ (power) "DQ ground: Provide isolated ground to DQ for improved noise immunity.", P7 VDDQ (power) "DQ power: Provide isolated power to DQ for improved noise immunity.", P8 VSSQ (power) "DQ ground: Provide isolated ground to DQ for improved noise immunity.", R3 VSS (power) "Ground.", R7 VDD (power) "Core power supply."